# EAGLE library part NC7SZ157 (library bschulz)
NC7SZ157 - Non-Inverting Digital Multiplexer (1:2) Characteristics: VCC: 1.65~5.5V Operating Temperature: -40°C to 85°C Digikey: NC7SZ157P6XCT-ND (SC70) <https://www.digikey.com/product-detail/en/on-semiconductor/NC7SZ157P6X/NC7SZ157P6XCT-ND/965691> NC7SZ157L6XFSCT-ND (UFDFN) <https://www.digikey.com/product-detail/en/on-semiconductor/NC7SZ157L6X/NC7SZ157L6XFSCT-ND/3478182> NC7SZ157FHXCT-ND (MicroPak2) <https://www.digikey.com/product-detail/en/on-semiconductor/NC7SZ157FHX/NC7SZ157FHXCT-ND/3908012>
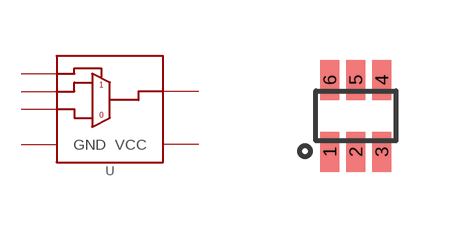
[diagram p81: symbol with the pads of SC-70_6; footprint SC-70_6]

Designator prefix U

## NC7SZ157SC-70 (DIGIKEY: NC7SZ157P6XCT-ND; DISP: NC7SZ157; MF: ON Semiconductor; MPN: NC7SZ157P6X)  [SC-70_6]
1  A  in
2  GND  pwr
3  B  in
4  Y  out
5  VCC  pwr
6  C  in

## Footprint SC-70_6 (pad centres in mm)
smd 0.47 x 1: 1 -0.65,-0.9; 2 0,-0.9; 3 0.65,-0.9; 4 0.65,0.9; 5 0,0.9; 6 -0.65,0.9